# EAGLE library part L9958 (library L9958)
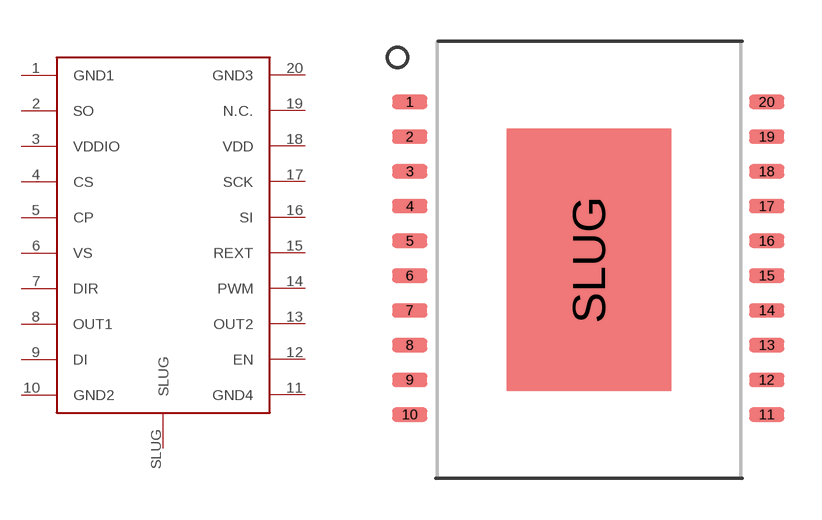
[diagram p0: symbol with the pads of L9958; footprint L9958]

Designator prefix -

## L9958L9958  [L9958]
1  GND1
2  SO
3  VDDIO
4  CS
5  CP
6  VS
7  DIR
8  OUT1
9  DI
10  GND2
11  GND4
12  EN
13  OUT2
14  PWM
15  REXT
16  SI
17  SCK
18  VDD
19  N.C.
20  GND3
SLUG  SLUG

## Footprint L9958 (pad centres in mm)
smd 1.3 x 0.53: 1 -6.548,5.77; 2 -6.548,4.5; 3 -6.548,3.23; 4 -6.548,1.96; 5 -6.548,0.69; 6 -6.548,-0.58; 7 -6.548,-1.85; 8 -6.548,-3.12; 9 -6.548,-4.39; 10 -6.548,-5.66; 11 6.495,-5.66; 12 6.495,-4.39; 13 6.495,-3.12; 14 6.495,-1.85; 15 6.495,-0.58; 16 6.495,0.69; 17 6.495,1.96; 18 6.495,3.23; 19 6.495,4.5; 20 6.495,5.77
smd 6 x 9.6: SLUG 0,0